# EAGLE library part DD2 (library Rozetti)
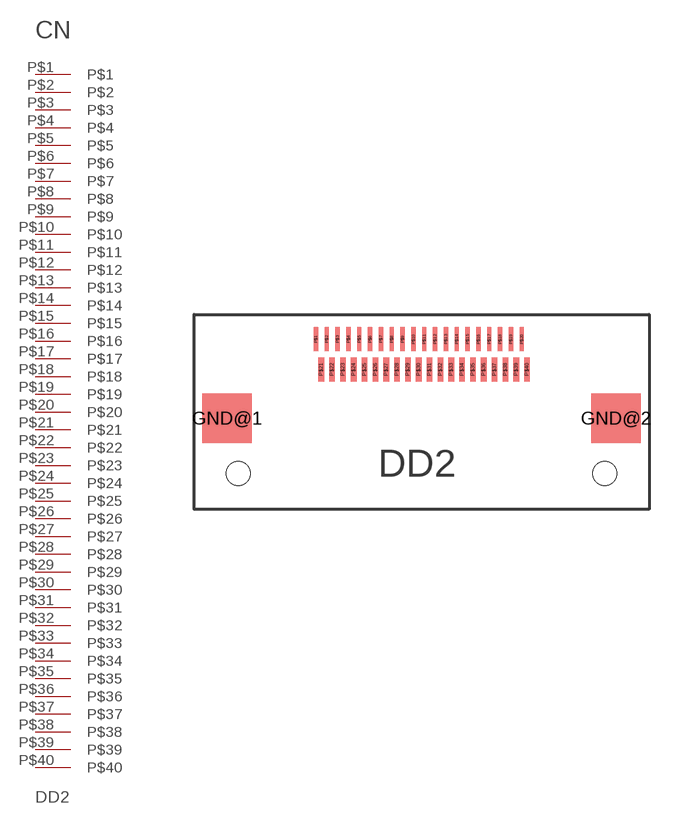
[diagram p0: symbol with the pads of DD2; footprint DD2]

Designator prefix CN

## DD2  [DD2]
P$1  P$1
P$2  P$2
P$3  P$3
P$4  P$4
P$5  P$5
P$6  P$6
P$7  P$7
P$8  P$8
P$9  P$9
P$10  P$10
P$11  P$11
P$12  P$12
P$13  P$13
P$14  P$14
P$15  P$15
P$16  P$16
P$17  P$17
P$18  P$18
P$19  P$19
P$20  P$20
P$21  P$21
P$22  P$22
P$23  P$23
P$24  P$24
P$25  P$25
P$26  P$26
P$27  P$27
P$28  P$28
P$29  P$29
P$30  P$30
P$31  P$31
P$32  P$32
P$33  P$33
P$34  P$34
P$35  P$35
P$36  P$36
P$37  P$37
P$38  P$38
P$39  P$39
P$40  P$40

## Footprint DD2 (pad centres in mm)
smd 2.3 x 2.3: GND@1 -8.975,4.2; GND@2 8.975,4.2
smd 0.2 x 1.1: P$1 -4.875,7.85; P$2 -4.375,7.85; P$3 -3.875,7.85; P$4 -3.375,7.85; P$5 -2.875,7.85; P$6 -2.375,7.85; P$7 -1.875,7.85; P$8 -1.375,7.85; P$9 -0.875,7.85; P$10 -0.375,7.85; P$11 0.125,7.85; P$12 0.625,7.85; P$13 1.125,7.85; P$14 1.625,7.85; P$15 2.125,7.85; P$16 2.625,7.85; P$17 3.125,7.85; P$18 3.625,7.85; P$19 4.125,7.85; P$20 4.625,7.85
smd 0.26 x 1.1: P$21 -4.625,6.45; P$22 -4.125,6.45; P$23 -3.625,6.45; P$24 -3.125,6.45; P$25 -2.625,6.45; P$26 -2.125,6.45; P$27 -1.625,6.45; P$28 -1.125,6.45; P$29 -0.625,6.45; P$30 -0.125,6.45; P$31 0.375,6.45; P$32 0.875,6.45; P$33 1.375,6.45; P$34 1.875,6.45; P$35 2.375,6.45; P$36 2.875,6.45; P$37 3.375,6.45; P$38 3.875,6.45; P$39 4.375,6.45; P$40 4.875,6.45
hole 1.1 at 8.45,1.65
hole 1.1 at -8.45,1.65